# EAGLE library part IR2101S (library m_ic-power)
HIGH AND LOW SIDE DRIVER Features • Floating channel designed for bootstrap operation Fully operational to +600V, Tolerant to negative transient voltage, dV/dt immune • Gate drive supply range from 10 to 20V • Undervoltage lockout • 3.3V, 5V, and 15V logic input compatible • Matched propagation delay for both channels • Outputs in phase with inputs (IR2101) or out of phase with inputs (IR2102) Product Summary VOFFSET 600V max. IO+/- 130 mA / 270 mA VOUT 10 - 20V ton/off (typ.) 160 & 150 ns Delay Matching 50 ns Description The IR2101(S)/IR2102(S) are high voltage, high speed power MOSFET and IGBT drivers with independent high and low side referenced output channels. Proprietary HVIC and latch immune CMOS technologies enable ruggedized monolithic construction. The logic input is compatible with standard CMOS or LSTTL output, down to 3.3V logic. The output drivers feature a high pulse current buffer stage designed for minimum driver cross-conduction. The floating channel can be used to drive an N-channel power MOSFET or IGBT in the high side configuration which operates up to 600 volts. Packages 8-Lead SOIC IR2101S/IR2102S 8-Lead PDIP IR2101/IR2102
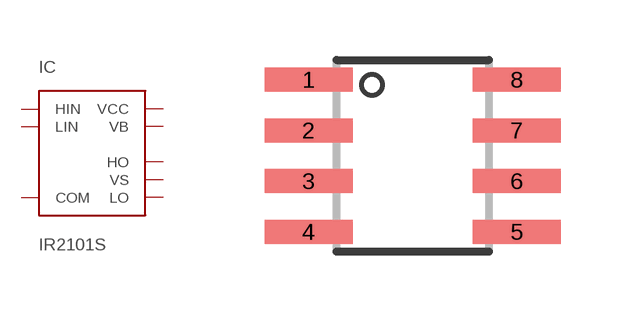
[diagram p0: symbol with the pads of SO08; footprint SO08]

Designator prefix IC

## IR2101S  [SO08]
1  VCC  pwr
2  HIN
3  LIN
4  COM  pwr
5  LO
6  VS
7  HO
8  VB

## Footprint SO08 (pad centres in mm)
Small Outline Package 8 NS Package M08A
smd 2.2 x 0.6: 1 -2.604,1.905; 2 -2.604,0.635; 3 -2.604,-0.635; 4 -2.604,-1.905; 5 2.604,-1.905; 6 2.604,-0.635; 7 2.604,0.635; 8 2.604,1.905